# EAGLE library part POLOLU_MAX14870 (library nathans-custom-parts)
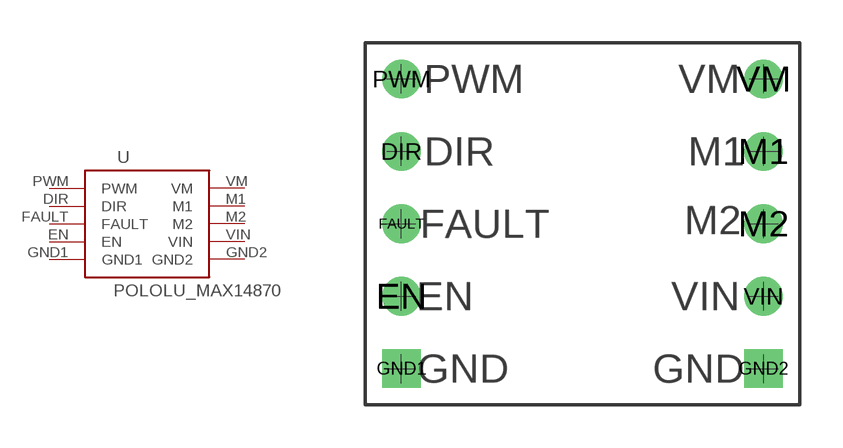
[diagram p1: symbol with the pads of POLOLU_MAX14870; footprint POLOLU_MAX14870]

Designator prefix -

## POLOLU_MAX14870  [POLOLU_MAX14870]
DIR  DIR
EN  EN
FAULT  FAULT
GND1  GND1
GND2  GND2
M1  M1
M2  M2
PWM  PWM
VIN  VIN
VM  VM

## Footprint POLOLU_MAX14870 (pad centres in mm)
drill 0.85: DIR -6.35,2.54; EN -6.35,-2.54; FAULT -6.35,0; M1 6.35,2.54; M2 6.35,0; PWM -6.35,5.08; VIN 6.35,-2.54; VM 6.35,5.08
drill 0.85 square: GND1 -6.35,-5.08; GND2 6.35,-5.08